# EAGLE library part JTAG/SWD (library uRings_SE_Library)
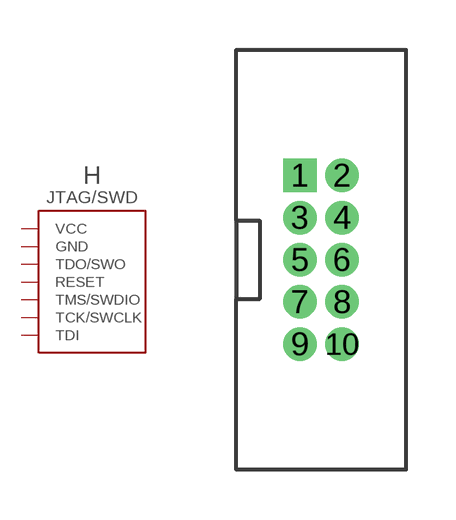
[diagram p9: symbol with the pads of PTH-0.05-2X5-SHROUDED; footprint PTH-0.05-2X5-SHROUDED]

Designator prefix H

## JTAG/SWD  [PTH-0.05-2X5-SHROUDED]
1  VCC
2  TMS/SWDIO
3  GND
4  TCK/SWCLK
5  GND
6  TDO/SWO
8  TDI
9  GND
10  RESET

## Footprint PTH-0.05-2X5-SHROUDED (pad centres in mm)
drill 0.5 pad 0.9 square: 1 -0.635,2.54
drill 0.5 pad 0.9: 2 0.635,2.54; 3 -0.635,1.27; 4 0.635,1.27; 5 -0.635,0; 6 0.635,0; 7 -0.635,-1.27; 8 0.635,-1.27; 9 -0.635,-2.54; 10 0.635,-2.54